# Altium footprint library display_mux.PcbLib: 1 footprints
Each footprint in its own frame and in the unit in brackets; x right, y up, seen from the top. Pads: shape width x height; smd on the part's side, far side on the other; paste and mask are expansions set on the pad; w line width, h text height; cw(c..) or ccw(c..) is an arc to the next point about the centre after c.
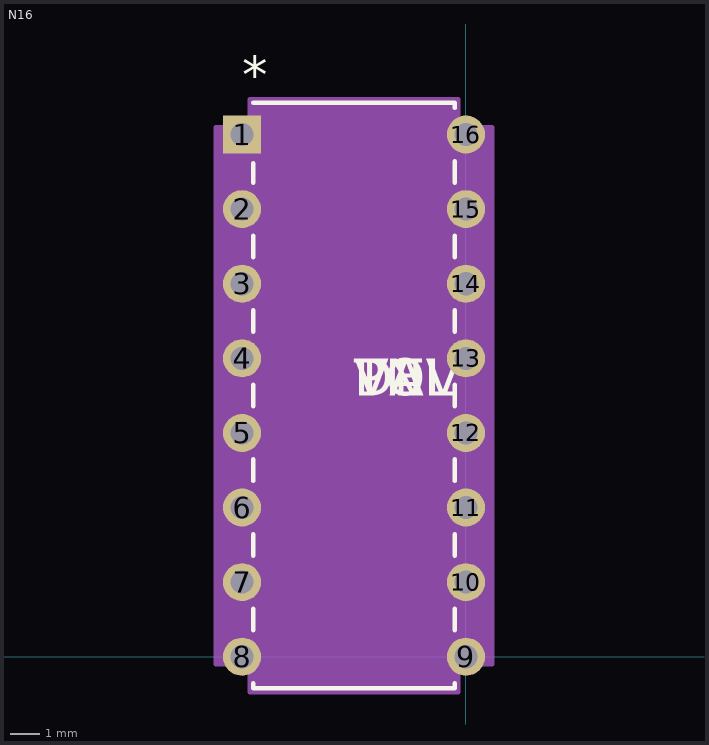
[diagram p0: the footprint, top view; thin cyan lines are the x and y axes]

## N16 [mil]
pads (16):
  rect 51x51 / inner round 60 / far side rect 51x51 hole 31 paste+0 mask+0: 1(-300,700)
  round 51 / inner round 60 / far side round 51 hole 31 paste+0 mask+0: 2(-300,600) 3(-300,500) 4(-300,400) 5(-300,300) 6(-300,200) 7(-300,100) 8(-300,0) 9(0,0) 10(0,100) 11(0,200) 12(0,300) 13(0,400) 14(0,500) 15(0,600) 16(0,700)
Top Overlay:
  lines w6: -285,-35.57 -285,-42.5 -15,-42.5 -15,-35.57 ; -285,35.57 -285,64.43 ; -285,135.57 -285,164.43 ; -285,235.57 -285,264.43 ; -285,335.57 -285,364.43 ; -285,435.57 -285,464.43 ; -285,535.57 -285,564.43 ; -285,635.57 -285,661.4 ; -285,742.5 -15,742.5 -15,735.57 ; -15,35.57 -15,64.43 ; -15,135.57 -15,164.43 ; -15,235.57 -15,264.43 ; -15,335.57 -15,364.43 ; -15,435.57 -15,464.43 ; -15,535.57 -15,564.43 ; -15,635.57 -15,664.43
  text "*" at -300,755.5 h50
  text "PN" at -150,350 h50
  text "DEV" at -150,350 h50
  text "VAL" at -150,350 h50
  text "TOL" at -150,350 h50
Mechanical 13:
  lines w0: -162,737.5 ccw(c-150,737.5) -138,737.5
  lines w1: -315.5,-15.5 -315.5,15.5 -280,15.5 -280,-15.5 -315.5,-15.5 ; -315.5,84.5 -315.5,115.5 -280,115.5 -280,84.5 -315.5,84.5 ; -315.5,184.5 -315.5,215.5 -280,215.5 -280,184.5 -315.5,184.5 ; -315.5,284.5 -315.5,315.5 -280,315.5 -280,284.5 -315.5,284.5 ; -315.5,384.5 -315.5,415.5 -280,415.5 -280,384.5 -315.5,384.5 ; -315.5,484.5 -315.5,515.5 -280,515.5 -280,484.5 -315.5,484.5 ; -315.5,584.5 -315.5,615.5 -280,615.5 -280,584.5 -315.5,584.5 ; -315.5,684.5 -315.5,715.5 -280,715.5 -280,684.5 -315.5,684.5 ; -280,-37.5 -20,-37.5 -20,737.5 -280,737.5 -280,-37.5 ; -20,-15.5 -20,15.5 15.5,15.5 15.5,-15.5 -20,-15.5 ; -20,84.5 -20,115.5 15.5,115.5 15.5,84.5 -20,84.5 ; -20,184.5 -20,215.5 15.5,215.5 15.5,184.5 -20,184.5 ; -20,284.5 -20,315.5 15.5,315.5 15.5,284.5 -20,284.5 ; -20,384.5 -20,415.5 15.5,415.5 15.5,384.5 -20,384.5 ; -20,484.5 -20,515.5 15.5,515.5 15.5,484.5 -20,484.5 ; -20,584.5 -20,615.5 15.5,615.5 15.5,584.5 -20,584.5 ; -20,684.5 -20,715.5 15.5,715.5 15.5,684.5 -20,684.5
  text "*" at -270,700 h50
  text "RefDes2" at -150,350 h50
Mechanical 15:
  region: -10,-10 35.5,-10 35.5,710 -10,710 -10,747.5 -290,747.5 -290,710 -335.5,710 -335.5,-10 -290,-10 -290,-47.5 -10,-47.5
  lines w6: -335.5,-10 -335.5,710 -290,710 -290,747.5 -10,747.5 -10,710 35.5,710 35.5,-10 -10,-10 -10,-47.5 -290,-47.5 -290,-10 -335.5,-10
3D body: height 10, standoff 0, extent 0,0 10,10